# EAGLE library part M3428X(20PIN) (library renesas_mcu)
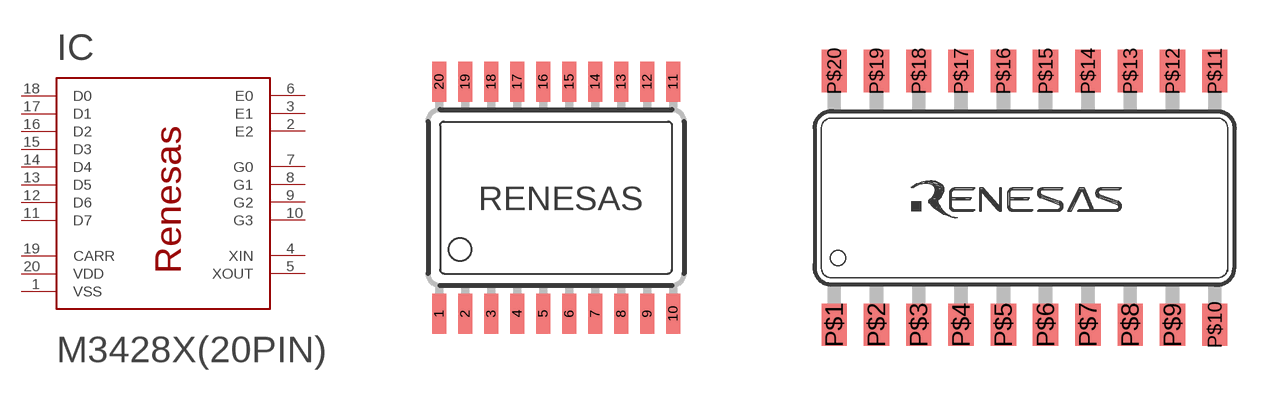
[diagram p61: symbol with the pads of 20P2E/F-A; footprints 20P2E/F-A, 20P2N-A]

Designator prefix IC

## M3428X(20PIN)GP  [20P2E/F-A]
1  VSS  pwr
2  E2  in
3  E1
4  XIN  in
5  XOUT  out
6  E0
7  G0
8  G1
9  G2
10  G3
11  D7
12  D6  out
13  D5  out
14  D4  out
15  D3  out
16  D2  out
17  D1  out
18  D0  out
19  CARR  out
20  VDD  pwr

## M3428X(20PIN)FP  [20P2N-A]
P$1  VSS  pwr
P$2  E2  in
P$3  E1
P$4  XIN  in
P$5  XOUT  out
P$6  E0
P$7  G0
P$8  G1
P$9  G2
P$10  G3
P$11  D7
P$12  D6  out
P$13  D5  out
P$14  D4  out
P$15  D3  out
P$16  D2  out
P$17  D1  out
P$18  D0  out
P$19  CARR  out
P$20  VDD  pwr

## Footprint 20P2E/F-A (pad centres in mm)
smd 0.35 x 1: 1 -2.925,-2.9; 2 -2.275,-2.9; 3 -1.625,-2.9; 4 -0.975,-2.9; 5 -0.325,-2.9; 6 0.325,-2.9; 7 0.975,-2.9; 8 1.625,-2.9; 9 2.275,-2.9; 10 2.925,-2.9; 11 2.925,2.9; 12 2.275,2.9; 13 1.625,2.9; 14 0.975,2.9; 15 0.325,2.9; 16 -0.325,2.9; 17 -0.975,2.9; 18 -1.625,2.9; 19 -2.275,2.9; 20 -2.925,2.9

## Footprint 20P2N-A (pad centres in mm)
smd 0.76 x 1.27: P$1 -5.715,-3.81; P$2 -4.445,-3.81; P$3 -3.175,-3.81; P$4 -1.905,-3.81; P$5 -0.635,-3.81; P$6 0.635,-3.81; P$7 1.905,-3.81; P$8 3.175,-3.81; P$9 4.445,-3.81; P$10 5.715,-3.81; P$11 5.715,3.81; P$12 4.445,3.81; P$13 3.175,3.81; P$14 1.905,3.81; P$15 0.635,3.81; P$16 -0.635,3.81; P$17 -1.905,3.81; P$18 -3.175,3.81; P$19 -4.445,3.81; P$20 -5.715,3.81